# EAGLE library part ISO1044 (library collin)
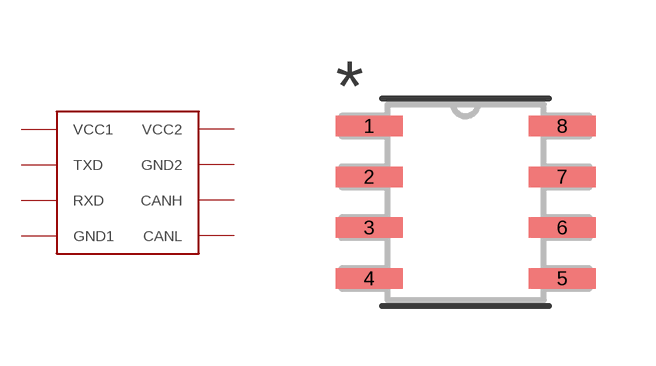
[diagram p15: symbol with the pads of SOIC8-L; footprint SOIC8-L]

Designator prefix -

## ISO1044  [SOIC8-L]
1  VCC1  pas
2  TXD  pas
3  RXD  pas
4  GND1  pas
5  CANL  pas
6  CANH  pas
7  GND2  pas
8  VCC2  pas

## Footprint SOIC8-L (pad centres in mm)
smd 1.676 x 0.508: 1 -2.413,1.905; 2 -2.413,0.635; 3 -2.413,-0.635; 4 -2.413,-1.905; 5 2.413,-1.905; 6 2.413,-0.635; 7 2.413,0.635; 8 2.413,1.905